# Altium footprint library SOT23-3P91_240X110L53X44N.PcbLib: 1 footprints
Each footprint in its own frame and in the unit in brackets; x right, y up, seen from the top. Pads: shape width x height; smd on the part's side, far side on the other; paste and mask are expansions set on the pad; w line width, h text height; cw(c..) or ccw(c..) is an arc to the next point about the centre after c.
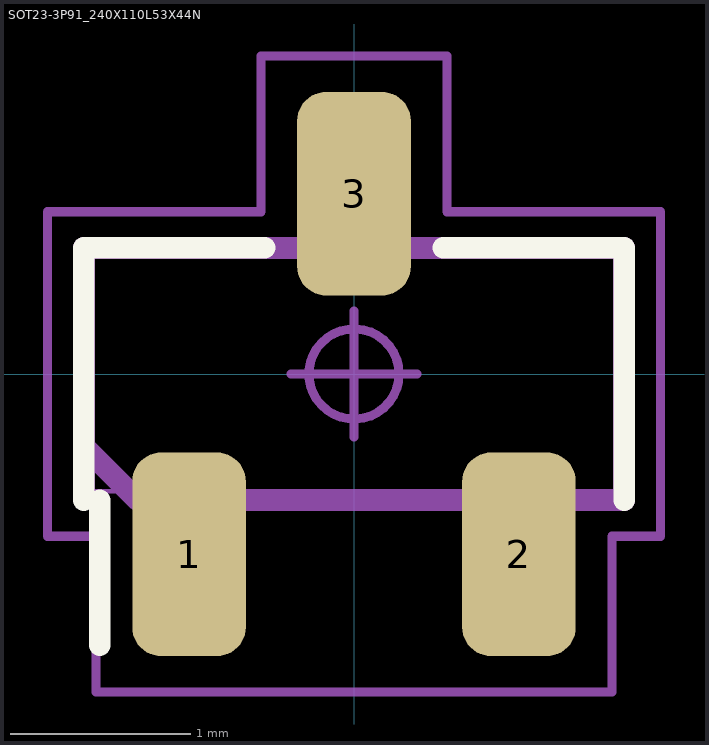
[diagram p0: the footprint, top view; thin cyan lines are the x and y axes]

## SOT23-3P91_240X110L53X44N [mm] "Small Outline Transistor (SOT23), 0.915 mm pitch; 3 pin, 2.90 mm L X 1.30 mm W X 1.10 mm H body"
height 1.1
pads (3):
  rrect51% 0.63x1.13 smd: 1(-0.915,-1) 2(0.915,-1) 3(0,1)
Top Overlay:
  lines w0.12: -1.5,-0.7 -1.5,0.7 -0.495,0.7 ; -1.41,-1.505 -1.41,-0.7 ; 0.495,0.7 1.5,0.7 1.5,-0.7
Mechanical 3:
  lines w0.12: -1.5,-0.4 -1.2,-0.7 1.5,-0.7 1.5,0.7 -1.5,0.7 -1.5,-0.4
Mechanical 5:
  lines w0.025: -1.45,-0.65 -1.45,0.65 1.45,0.65 1.45,-0.65 -1.45,-0.65 ; -1.135,-1.2 -0.695,-1.2 -0.695,-0.67 -1.135,-0.67 -1.135,-1.2 ; -0.22,0.67 0.22,0.67 0.22,1.2 -0.22,1.2 -0.22,0.67 ; 0.695,-1.2 1.135,-1.2 1.135,-0.67 0.695,-0.67 0.695,-1.2
Mechanical 7:
  circle w0.05: c0,0 r0.25
  lines w0.05: -0.35,0 0.35,0 ; 0,-0.35 0,0.35 ; -1.7,-0.9 -1.7,0.9 -0.515,0.9 -0.515,1.765 0.515,1.765 0.515,0.9 1.7,0.9 1.7,-0.9 1.43,-0.9 1.43,-1.765 -1.43,-1.765 -1.43,-0.9 -1.7,-0.9
Mechanical 9:
  text "'.Designator'" at -5.755,-0.354 h1
3D body "SOT23-3P91_240X110L53X44.STEP": height 1.1, standoff 0, extent -1.45,-1.2 1.45,1.2
3D body: height 1, standoff 0, extent -1.7,-1.775 1.7,1.775
3D body: height 1.04, standoff 0, extent -1.7,-1.765 1.7,1.765